# Altium footprint library BANANA_JACK_01.PcbLib: 1 footprints
Each footprint in its own frame and in the unit in brackets; x right, y up, seen from the top. Pads: shape width x height; smd on the part's side, far side on the other; paste and mask are expansions set on the pad; w line width, h text height; cw(c..) or ccw(c..) is an arc to the next point about the centre after c.
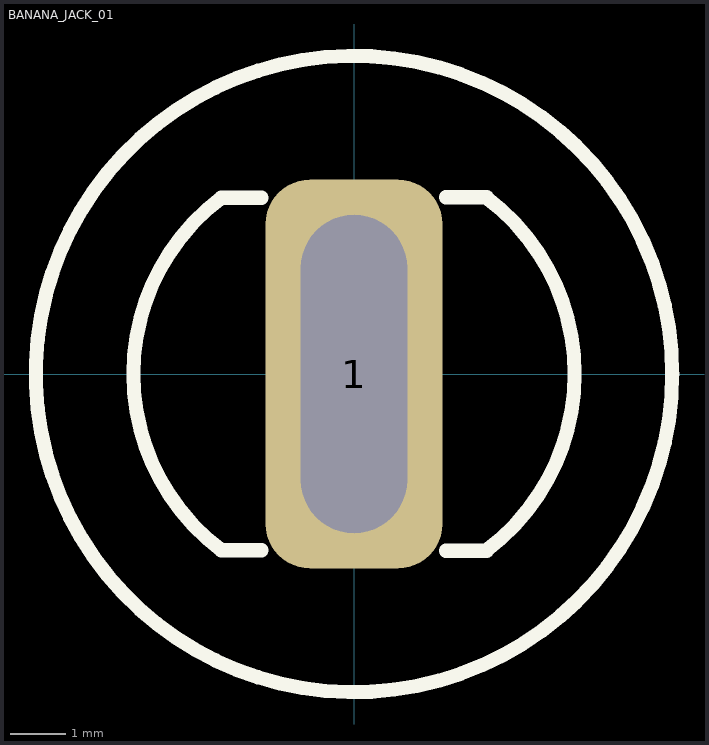
[diagram p0: the footprint, top view; thin cyan lines are the x and y axes]

## BANANA_JACK_01 [mil] "Through-Hole Part for a Panel Mount Banana Jack"
pads (1):
  rrect50% 125x275 hole 75 slot 225 at 90 deg: 1(0,0)
Top Overlay:
  circle w10: c0,0 r225
  lines w10: -65.41,-124.59 -93.88,-124.59 cw(c0,0) -93.88,124.59 -65.41,124.59 ; 65,-125 93.88,-125 ; 65,125 93.88,125 ; 93.88,-124.59 ccw(c0,0) 93.88,124.59
3D body: height 662.5, standoff -275.5, extent -218,-220 220,218